# Altium footprint library Connector.PcbLib: 5 footprints
Each footprint in its own frame and in the unit in brackets; x right, y up, seen from the top. Pads: shape width x height; smd on the part's side, far side on the other; paste and mask are expansions set on the pad; w line width, h text height; cw(c..) or ccw(c..) is an arc to the next point about the centre after c.
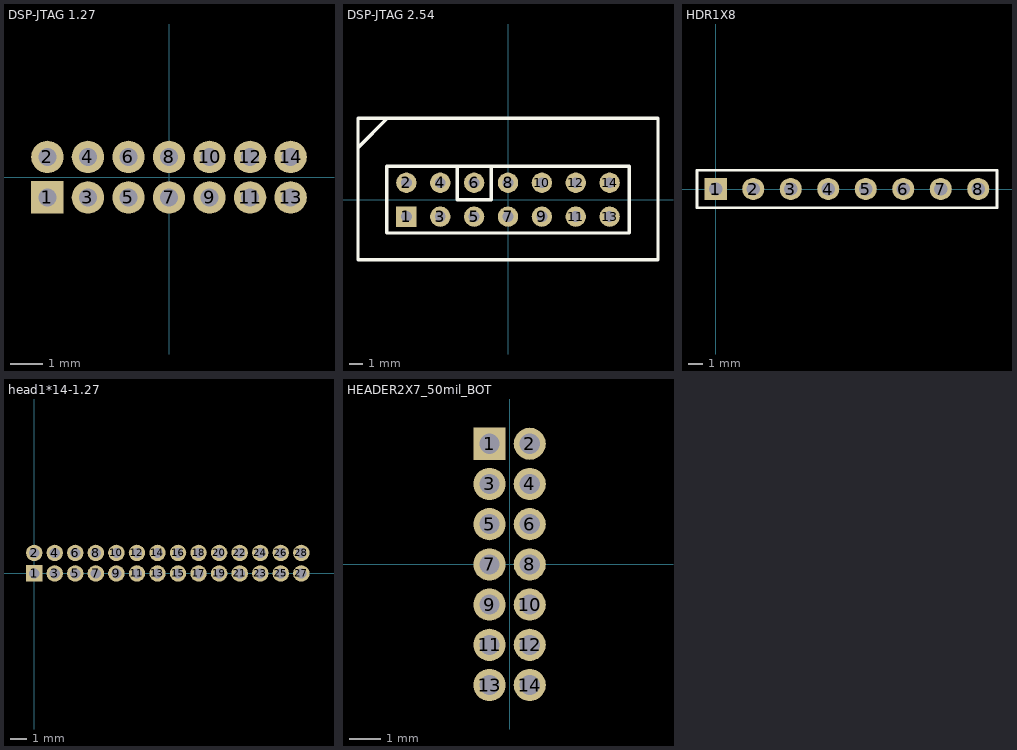
[diagram p0: the footprints below, top view; thin cyan lines are the x and y axes]

## DSP-JTAG 1.27 [mil] "50mil 1.27mm间距"
height 31.5
pads (14):
  rect 40x40 hole 22: 1(-150,-25)
  round 40 hole 22: 2(-150,25) 3(-100,-25) 4(-100,25) 5(-50,-25) 6(-50,25) 7(0,-25) 8(0,25) 9(50,-25) 10(50,25) 11(100,-25) 12(100,25) 13(150,-25) 14(150,25)
Bottom Overlay:
  circle w5: c-150.39,-80.31 r7.87
  lines w5: -74.8,59.06 -74.8,0 -25.59,0 -25.59,59.06
  lines w8: -185.04,-59.06 -185.04,59.06 0,59.06 185.04,59.06 185.04,-59.06 0,-59.06 -185.04,-59.06

## DSP-JTAG 2.54 [mil] "100mil 2.54mm间距"
height 31.5
pads (14):
  rect 60x60 hole 32: 1(-300,-50)
  round 60 hole 32: 2(-300,50) 3(-200,-50) 4(-200,50) 5(-100,-50) 6(-100,50) 7(0,-50) 8(0,50) 9(100,-50) 10(100,50) 11(200,-50) 12(200,50) 13(300,-50) 14(300,50)
Top Overlay:
  lines w10: -442.91,153.54 -356.3,240.16 ; -150,98.43 -150,0 -50,0 -50,98.43 ; -442.91,-177.17 442.91,-177.17 442.91,240.16 0,240.16 -442.91,240.16 -442.91,-177.17 ; -358.27,-98.43 -358.27,98.43 358.27,98.43 358.27,-98.43 -358.27,-98.43

## HDR1X8 [mm] "Connector; Header; 8 Position"
height 0.8
pads (8):
  rect 1.5x1.5 hole 0.9: 1(0,0)
  round 1.5 hole 0.9: 2(2.54,0) 3(5.08,0) 4(7.62,0) 5(10.16,0) 6(12.7,0) 7(15.24,0) 8(17.78,0)
Top Overlay:
  lines w0.2: -1.27,-1.27 19.05,-1.27 19.05,1.27 -1.27,1.27 -1.27,-1.27

## head1*14-1.27 [mil]
pads (28):
  rect 40x40 hole 25: 1(0,0)
  round 40 hole 25: 2(0,50) 3(50,0) 4(50,50) 5(100,0) 6(100,50) 7(150,0) 8(150,50) 9(200,0) 10(200,50) 11(250,0) 12(250,50) 13(300,0) 14(300,50) 15(350,0) 16(350,50) 17(400,0) 18(400,50) 19(450,0) 20(450,50) 21(500,0) 22(500,50) 23(550,0) 24(550,50) 25(600,0) 26(600,50) 27(650,0) 28(650,50)
Bottom Overlay:
  lines w10: -37,83 470,83 ; 470,-37 -37,-37 ; -37,-37 -37,82 692,82 693,81 693,-37 -37,-37

## HEADER2X7_50mil_BOT [mil] "1.27mm"
height 196.85
pads (14):
  rect 40x40 hole 25: 1(-25,150)
  round 40 hole 25: 2(25,150) 3(-25,100) 4(25,100) 5(-25,50) 6(25,50) 7(-25,0) 8(25,0) 9(-25,-50) 10(25,-50) 11(-25,-100) 12(25,-100) 13(-25,-150) 14(25,-150)
Bottom Overlay:
  lines w10: 57,187 -62,187 -62,-186 58,-186 58,187